# EAGLE library part ENCODER_PLUS_SWITCH (library parts_footprints)
PEC11 encoder with pushbutton switch
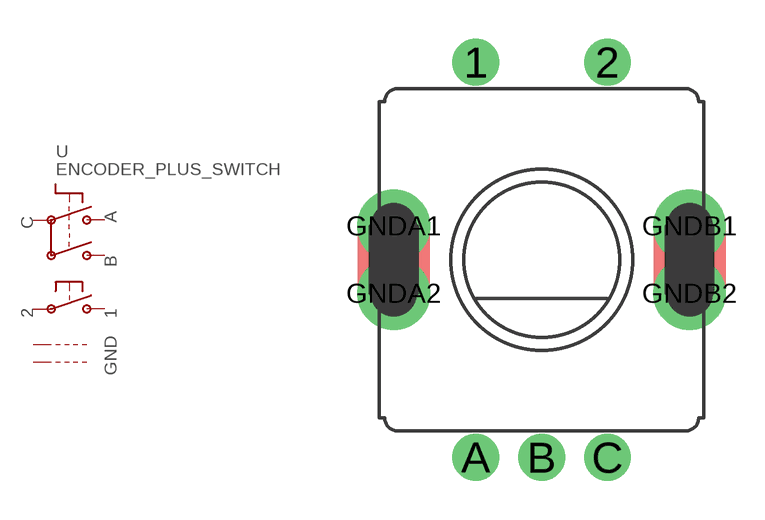
[diagram p0: symbol with the pads of PEC11_PUSHBUTTON; footprint PEC11_PUSHBUTTON]

Designator prefix -

## ENCODER_PLUS_SWITCH  [PEC11_PUSHBUTTON]
1  P$1  pas
2  P$2  pas
A  P$A  pas
B  P$C  pas
C  P$B  pas
GNDA1  P$GND1  pas
GNDA2  P$GND1  pas
GNDB1  P$GND2  pas
GNDB2  P$GND2  pas

## Footprint PEC11_PUSHBUTTON (pad centres in mm)
drill 1 pad 1.8: 1 -2.54,7.62; 2 2.54,7.62; A -2.54,-7.62; B 0,-7.62; C 2.54,-7.62
drill 1.8 pad 2.8: GNDA1 -5.7,1.3; GNDA2 -5.7,-1.3; GNDB1 5.7,1.3; GNDB2 5.7,-1.3